# EAGLE library part ADM3483E (library analog-devices)
RS-485/RS-422 TRANSCEIVER
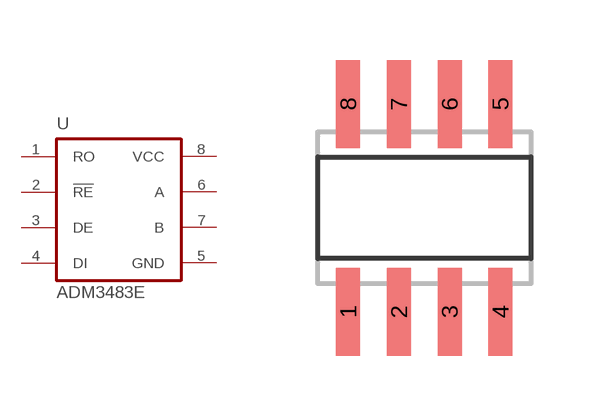
[diagram p40: symbol with the pads of SO08; footprint SO08]

Designator prefix U

## ADM3483E (P1I: o)  [SO08]
1  RO  out
2  !RE  in
3  DE  in
4  DI  in
5  GND  pwr
6  A
7  B
8  VCC  pwr

## Footprint SO08 (pad centres in mm)
SMALL OUTLINE INTEGRATED CIRCUIT body 3.9 mm/JEDEC MS-012AA
smd 0.6 x 2.2: 1 -1.905,-2.6; 2 -0.635,-2.6; 3 0.635,-2.6; 4 1.905,-2.6; 5 1.905,2.6; 6 0.635,2.6; 7 -0.635,2.6; 8 -1.905,2.6